# Altium footprint library Connectors.PcbLib: 77 footprints (part 4 of 5)
Each footprint in its own frame and in the unit in brackets; x right, y up, seen from the top. Pads: shape width x height; smd on the part's side, far side on the other; paste and mask are expansions set on the pad; w line width, h text height; cw(c..) or ccw(c..) is an arc to the next point about the centre after c.
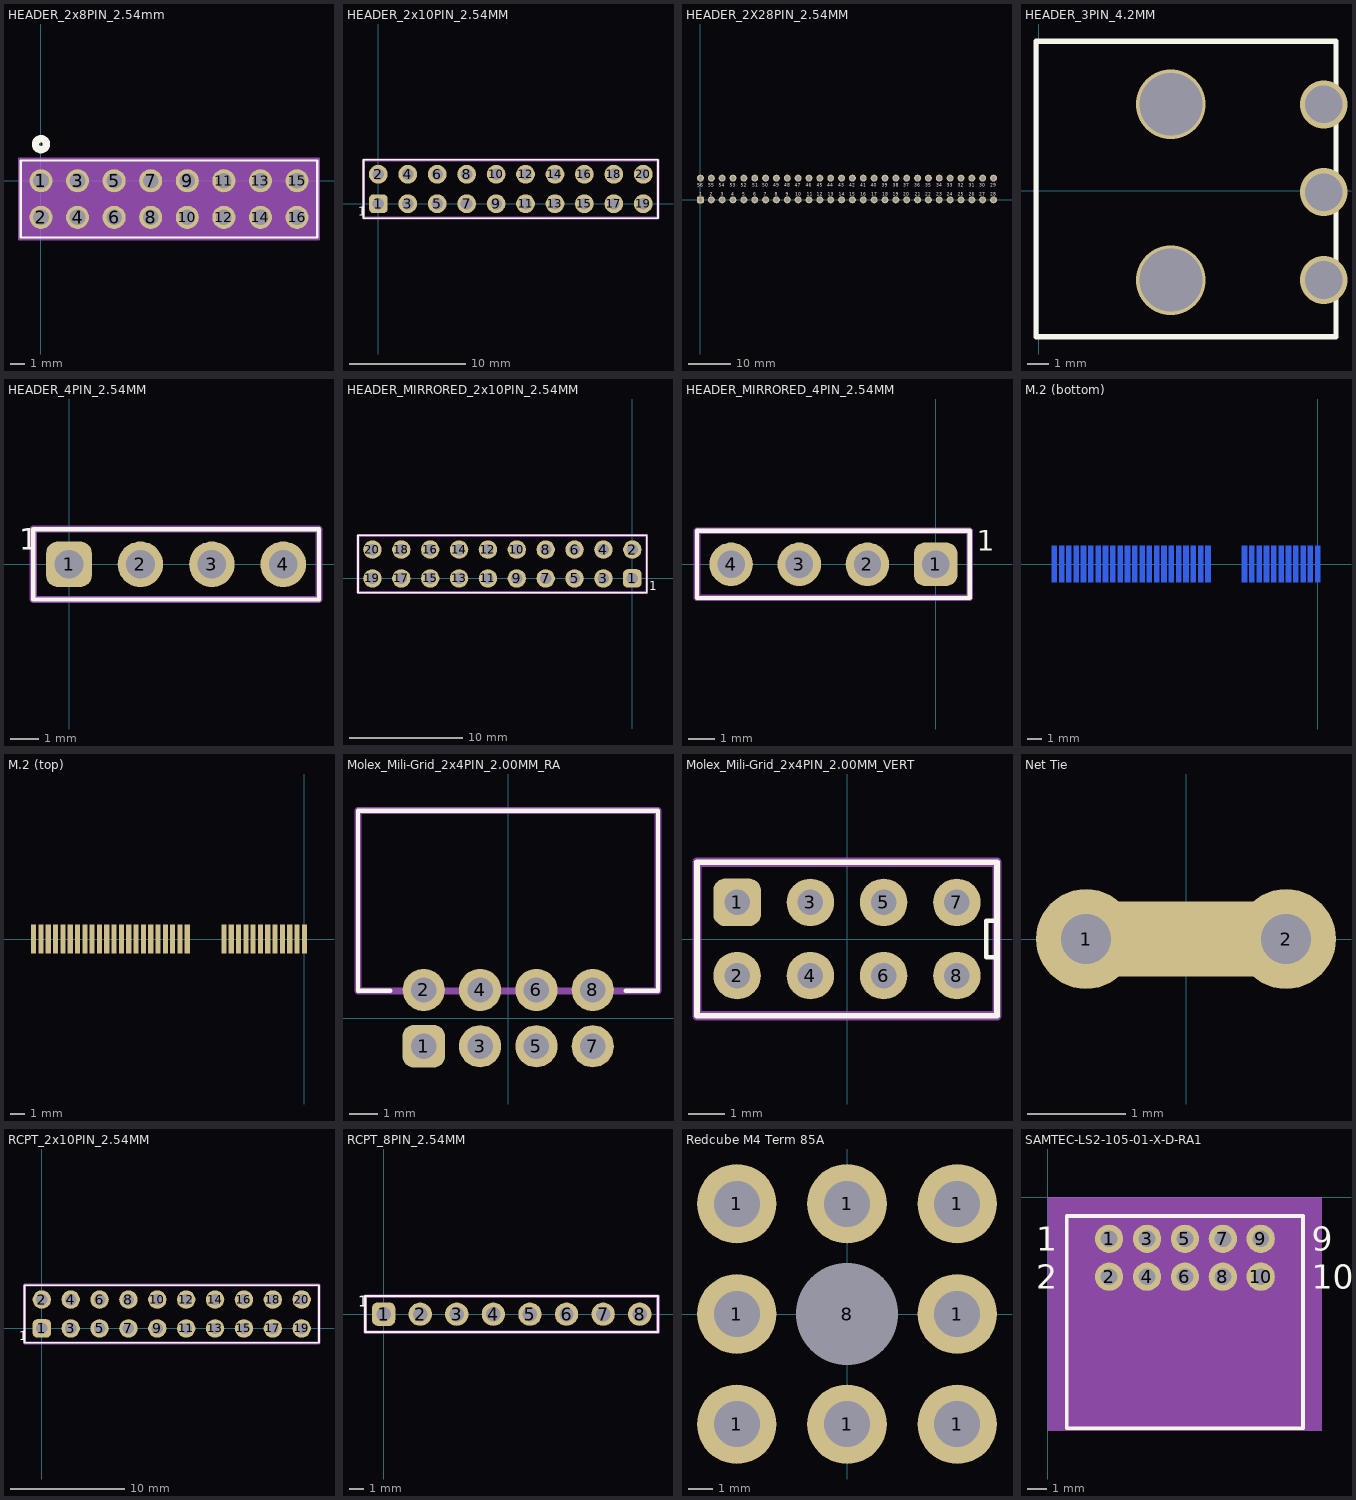
[diagram p3: the footprints below, top view; thin cyan lines are the x and y axes]

## HEADER_2x8PIN_2.54mm [mil]
pads (16):
  round 63 hole 43 paste-99999 mask+0: 1(0,0) 2(0,-100) 3(100,0) 4(100,-100) 5(200,0) 6(200,-100) 7(300,0) 8(300,-100) 9(400,0) 10(400,-100) 11(500,0) 12(500,-100) 13(600,0) 14(600,-100) 15(700,0) 16(700,-100)
Top Overlay:
  circle w20: c0,100 r15
  lines w6: -55,-155 -55,55 755,55 755,-155 -55,-155
Bottom Overlay:
  circle w20: c0,100 r15
Mechanical 13:
  lines w1: -50,-150 -50,50 750,50 750,-150 -50,-150
Mechanical 15:
  region: 760,60 -60,60 -60,-160 760,-160
  lines w6: -60,-160 760,-160 760,60 -60,60 -60,-160
3D body "0901310768.stp": height 365.12, standoff -113.23, extent -49,-150 751,50

## HEADER_2x10PIN_2.54MM [mm]
pads (20):
  rrect50% 1.62x1.62 hole 1.02: 1(0,0)
  round 1.62 hole 1.02: 2(0,2.54) 3(2.54,0) 4(2.54,2.54) 5(5.08,0) 6(5.08,2.54) 7(7.62,0) 8(7.62,2.54)
  round 1.62 hole 1: 9(10.16,0) 10(10.16,2.54) 11(12.7,0) 12(12.7,2.54) 13(15.24,0) 14(15.24,2.54) 15(17.78,0) 16(17.78,2.54) 17(20.32,0) 18(20.32,2.54) 19(22.86,0) 20(22.86,2.54)
Top Overlay:
  lines w0.152: -1.27,-1.25 24.13,-1.25 24.13,3.79 -1.27,3.79 -1.27,-1.25
  text "1" at -1.753,-1.041 h0.76
Mechanical 1:
  lines w0.254: -1.27,-1.25 24.13,-1.25 24.13,3.79 -1.27,3.79 -1.27,-1.25
3D body "XG8T-2031.STEP": height 7.01, standoff -2.99, extent -1.27,-1.25 24.13,3.75

## HEADER_2X28PIN_2.54MM [mm]
pads (56):
  rrect50% 1.62x1.62 hole 1.02: 1(0,0)
  round 1.62 hole 1.02: 2(2.54,0) 3(5.08,0) 4(7.62,0) 5(10.16,0) 6(12.7,0) 7(15.24,0) 8(17.78,0) 9(20.32,0) 10(22.86,0) 11(25.4,0) 12(27.94,0) 13(30.48,0) 14(33.02,0) 15(35.56,0) 16(38.1,0) 17(40.64,0) 18(43.18,0) 19(45.72,0) 20(48.26,0) 21(50.8,0) 22(53.34,0) 23(55.88,0) 24(58.42,0) 25(60.96,0) 26(63.5,0) 27(66.04,0) 28(68.58,0) 29(68.58,5.08) 30(66.04,5.08) 31(63.5,5.08) 32(60.96,5.08) 33(58.42,5.08) 34(55.88,5.08) 35(53.34,5.08) 36(50.8,5.08) 37(48.26,5.08) 38(45.72,5.08) 39(43.18,5.08) 40(40.64,5.08) 41(38.1,5.08) 42(35.56,5.08) 43(33.02,5.08) 44(30.48,5.08) 45(27.94,5.08) 46(25.4,5.08) 47(22.86,5.08) 48(20.32,5.08) 49(17.78,5.08) 50(15.24,5.08) 51(12.7,5.08) 52(10.16,5.08) 53(7.62,5.08) 54(5.08,5.08) 55(2.54,5.08) 56(0,5.08)
Top Overlay:
  text "35" at 52.578,3.048 h0.76
  text "38" at 44.958,3.048 h0.76
  text "37" at 47.498,3.048 h0.76
  text "36" at 50.038,3.048 h0.76
  text "34" at 55.118,3.048 h0.76
  text "33" at 57.658,3.048 h0.76
  text "32" at 60.198,3.048 h0.76
  text "31" at 62.738,3.048 h0.76
  text "30" at 65.278,3.048 h0.76
  text "29" at 67.818,3.048 h0.76
  text "56" at -0.762,3.048 h0.76
  text "55" at 1.778,3.048 h0.76
  text "54" at 4.318,3.048 h0.76
  text "53" at 6.858,3.048 h0.76
  text "52" at 9.398,3.048 h0.76
  text "51" at 12.065,3.048 h0.76
  text "48" at 19.558,3.048 h0.76
  text "50" at 14.478,3.048 h0.76
  text "49" at 17.018,3.048 h0.76
  text "47" at 22.098,3.048 h0.76
  text "46" at 24.638,3.048 h0.76
  text "45" at 27.178,3.048 h0.76
  text "44" at 29.718,3.048 h0.76
  text "43" at 32.258,3.048 h0.76
  text "42" at 34.798,3.048 h0.76
  text "41" at 37.402,3.048 h0.76
  text "40" at 39.878,3.048 h0.76
  text "39" at 42.418,3.048 h0.76
  text "28" at 67.818,1.016 h0.76
  text "27" at 65.278,1.016 h0.76
  text "26" at 62.738,1.016 h0.76
  text "25" at 60.198,1.016 h0.76
  text "24" at 57.658,1.016 h0.76
  text "23" at 55.118,1.016 h0.76
  text "22" at 52.578,1.016 h0.76
  text "21" at 50.165,1.016 h0.76
  text "20" at 47.498,1.016 h0.76
  text "19" at 45.022,1.016 h0.76
  text "18" at 42.482,1.016 h0.76
  text "17" at 39.942,1.016 h0.76
  text "16" at 37.402,1.016 h0.76
  text "15" at 34.862,1.016 h0.76
  text "14" at 32.322,1.016 h0.76
  text "13" at 29.782,1.016 h0.76
  text "12" at 27.242,1.016 h0.76
  text "11" at 24.829,1.016 h0.76
  text "10" at 22.162,1.016 h0.76
  text "9" at 19.939,1.016 h0.76
  text "8" at 17.399,1.016 h0.76
  text "7" at 14.859,1.016 h0.76
  text "6" at 12.319,1.016 h0.76
  text "5" at 9.779,1.016 h0.76
  text "4" at 7.239,1.016 h0.76
  text "3" at 4.699,1.016 h0.76
  text "2" at 2.159,1.016 h0.76
  text "1" at -0.254,1.016 h0.76

## HEADER_3PIN_4.2MM [mm] "CONN HEADER R/A 3POS 4.2MM"
pads (3):
  oval 0.3x1 all layers, no hole: 1(13.589,4.115) 2(13.589,-0.076) 3(13.589,-4.267)
via 6.299,-4.267 diameter 3.302 hole 2.997
via 13.589,4.115 diameter 2.286 hole 1.803
via 13.589,-0.076 diameter 2.286 hole 1.803
via 13.589,-4.267 diameter 2.286 hole 1.803
via 6.299,4.115 diameter 3.302 hole 2.997
Top Overlay:
  lines w0.254: -0.127,-6.96 14.173,-6.96 14.173,7.112 -0.127,7.112 -0.127,-6.96
3D body "039303037.stp": height 7.2, standoff -3.5, extent -0.025,-6.849 14.06,6.951

## HEADER_4PIN_2.54MM [mm]
pads (4):
  rrect50% 1.62x1.62 hole 1.02: 1(0,0)
  round 1.62 hole 1.02: 2(2.54,0) 3(5.08,0) 4(7.62,0)
Top Overlay:
  lines w0.152: -1.27,-1.25 -1.27,1.25 8.89,1.25 8.89,-1.25 -1.27,-1.25
  text "1" at -1.778,0.508 h0.76
Mechanical 1:
  lines w0.254: -1.27,-1.25 -1.27,1.25 8.89,1.25 8.89,-1.25 -1.27,-1.25
3D body "PEC04SFAN.STEP": height 10.48, standoff -3.19, extent -1.27,-1.27 8.89,1.27

## HEADER_MIRRORED_2x10PIN_2.54MM [mm]
pads (20):
  rrect50% 1.62x1.62 hole 1: 1(0,0)
  round 1.62 hole 1: 2(0,2.54) 3(-2.54,0) 4(-2.54,2.54) 5(-5.08,0) 6(-5.08,2.54) 7(-7.62,0) 8(-7.62,2.54) 9(-10.16,0) 10(-10.16,2.54) 11(-12.7,0) 12(-12.7,2.54)
  round 1.62 hole 1.02: 13(-15.24,0) 14(-15.24,2.54) 15(-17.78,0) 16(-17.78,2.54) 17(-20.32,0) 18(-20.32,2.54) 19(-22.86,0) 20(-22.86,2.54)
Top Overlay:
  lines w0.152: -24.13,-1.25 1.27,-1.25 1.27,3.79 -24.13,3.79 -24.13,-1.25
  text "1" at 1.499,-1.041 h0.76
Mechanical 1:
  lines w0.254: -24.13,-1.25 1.27,-1.25 1.27,3.79 -24.13,3.79 -24.13,-1.25
3D body "XG8T-2031.STEP": height 7.01, standoff -2.99, extent -24.13,-1.25 1.27,3.75

## HEADER_MIRRORED_4PIN_2.54MM [mm]
pads (4):
  rrect50% 1.62x1.62 hole 1.02: 1(0,0)
  round 1.62 hole 1.02: 2(-2.54,0) 3(-5.08,0) 4(-7.62,0)
Top Overlay:
  lines w0.152: -8.89,-1.25 1.27,-1.25 1.27,1.25 -8.89,1.25 -8.89,-1.25
  text "1" at 1.524,0.508 h0.76
Mechanical 1:
  lines w0.254: -8.89,-1.25 1.27,-1.25 1.27,1.25 -8.89,1.25 -8.89,-1.25
3D body "PEC04SFAN.STEP": height 10.48, standoff -3.19, extent -8.89,-1.27 1.27,1.27

## M.2 (bottom) [mm]
pads (33):
  rect 0.35x2.5 smd far side: 2(0,0) 4(-0.5,0) 6(-1,0) 8(-1.5,0) 10(-2.001,0) 12(-2.501,0) 14(-3.001,0) 16(-3.501,0) 18(-4.001,0) 20(-4.501,0) 22(-5.001,0) 32(-7.501,0) 34(-8.002,0) 36(-8.502,0) 38(-9.002,0) 40(-9.502,0) 42(-10.002,0) 44(-10.502,0) 46(-11.002,0) 48(-11.502,0) 50(-12.003,0) 52(-12.503,0) 54(-13.003,0) 56(-13.503,0) 58(-14.003,0) 60(-14.503,0) 62(-15.003,0) 64(-15.503,0) 66(-16.004,0) 68(-16.504,0) 70(-17.004,0) 72(-17.504,0) 74(-18.004,0)

## M.2 (top) [mm] "M.2 E-Key Fingers on the top side"
pads (34):
  rect 0.35x2 smd: 1(0,0) 3(-0.5,0) 5(-1,0) 7(-1.5,0) 9(-2,0) 11(-2.5,0) 13(-3,0) 15(-3.5,0) 17(-4,0) 19(-4.5,0) 21(-5,0) 23(-5.5,0) 33(-8,0) 35(-8.5,0) 37(-9,0) 39(-9.5,0) 41(-10,0) 43(-10.5,0) 45(-11,0) 47(-11.5,0) 49(-12,0) 51(-12.5,0) 53(-13,0) 55(-13.5,0) 57(-14,0) 59(-14.5,0) 61(-15,0) 63(-15.5,0) 65(-16,0) 67(-16.5,0) 69(-17,0) 71(-17.5,0) 73(-18,0) 75(-18.5,0)

## Molex_Mili-Grid_2x4PIN_2.00MM_RA [mm] "Molex Mili-Grid 2.00mm 2x4 RA"
pads (8):
  rrect50% 1.5x1.5 hole 0.9: 1(-3,-1)
  round 1.5 hole 0.9: 2(-3,1) 3(-1,-1) 4(-1,1) 5(1,-1) 6(1,1) 7(3,-1) 8(3,1)
Top Overlay:
  lines w0.152: -4.186,0.966 -5.334,0.966 -5.334,7.366 5.316,7.366 5.316,0.966 4.168,0.966
Mechanical 1:
  lines w0.254: -5.334,0.966 -5.334,7.366 5.316,7.366 5.316,0.966 -5.334,0.966
3D body "MiliGrid2x4RA.stp": height 6.31, standoff -2.15, extent -5.325,-1.27 5.325,7.38

## Molex_Mili-Grid_2x4PIN_2.00MM_VERT [mm] "Molex Mili-Grid 2.00mm 2x4 Vert"
pads (8):
  rrect50% 1.3x1.3 hole 0.7: 1(-3,1)
  round 1.3 hole 0.7: 2(-3,-1) 3(-1,1) 4(-1,-1) 5(1,1) 6(1,-1) 7(3,1) 8(3,-1)
Top Overlay:
  lines w0.127: 4.056,-0.5 3.8,-0.5 3.8,0.5 4.056,0.5
  lines w0.152: -4.095,-2.095 4.095,-2.095 4.095,2.095 -4.095,2.095 -4.095,-2.095
Mechanical 1:
  lines w0.254: -4.095,-2.095 4.095,-2.095 4.095,2.095 -4.095,2.095 -4.095,-2.095
3D body "MiliGrid2x4VERT.stp": height 4.45, standoff -2.99, extent -4.047,-2.079 4.143,2.111

## Net Tie [mil]
pads (3):
  round 40 hole 20: 1(-40,0) 2(40,0)
  rrect50% 80x30 smd: ""(0,0)

## RCPT_2x10PIN_2.54MM [mm]
pads (20):
  rrect50% 1.62x1.62 hole 1.02: 1(0,0)
  round 1.62 hole 1.02: 2(0,2.54) 3(2.54,0) 4(2.54,2.54) 5(5.08,0) 6(5.08,2.54) 7(7.62,0) 8(7.62,2.54)
  round 1.62 hole 1: 9(10.16,0) 10(10.16,2.54) 11(12.7,0) 12(12.7,2.54) 13(15.24,0) 14(15.24,2.54) 15(17.78,0) 16(17.78,2.54) 17(20.32,0) 18(20.32,2.54) 19(22.86,0) 20(22.86,2.54)
Top Overlay:
  lines w0.152: -1.524,-1.27 24.384,-1.27 24.384,3.81 -1.524,3.81 -1.524,-1.27
  text "1" at -2.007,-1.041 h0.76
Mechanical 1:
  lines w0.254: -1.524,-1.27 24.384,-1.27 24.384,3.81 -1.524,3.81 -1.524,-1.27
3D body "PPPC102LFBN-RC--3DModel-STEP-56544.STEP": height 8.51, standoff -3.4, extent -1.524,-1.27 24.384,3.81

## RCPT_8PIN_2.54MM [mm]
pads (8):
  rrect50% 1.62x1.62 hole 1.02: 1(0,0)
  round 1.62 hole 1.02: 2(2.54,0) 3(5.08,0) 4(7.62,0)
  round 1.62 hole 1: 5(10.16,0) 6(12.7,0) 7(15.24,0) 8(17.78,0)
Top Overlay:
  lines w0.152: -1.27,-1.25 -1.27,1.25 19.05,1.25 19.05,-1.25 -1.27,-1.25
  text "1" at -1.778,0.508 h0.76
Mechanical 1:
  lines w0.254: -1.27,-1.25 -1.27,1.25 19.05,1.25 19.05,-1.25 -1.27,-1.25
3D body "c-534237-6-s-3d.stp": height 8.65, standoff -2.91, extent -1.27,-1.778 19.05,1.778

## Redcube M4 Term 85A [mm]
pads (9):
  round 3.2 hole 1.85: 1(-4.435,-4.435) 1(-4.435,0) 1(-4.435,4.435) 1(0,-4.435) 1(0,4.435) 1(4.435,-4.435) 1(4.435,0) 1(4.435,4.435)
  round 3.2 hole 4.1 unplated: 8(0,0)
3D body "74650094 (rev1).stp": height 3, standoff -3, extent -5,-5 5,5

## SAMTEC-LS2-105-01-X-D-RA1 [mm]
pads (10):
  round 1.49 hole 0.89 mask+0: 1(3.229,-2.193) 2(3.229,-4.193) 3(5.229,-2.193) 4(5.229,-4.193) 5(7.229,-2.193) 6(7.229,-4.193) 7(9.229,-2.193) 8(9.229,-4.193) 9(11.229,-2.193) 10(11.229,-4.193)
Top Overlay:
  lines w0.2: 0.997,-12.192 13.461,-12.192 13.461,-0.997 0.997,-0.997 0.997,-12.192
  text "10" at 13.929,-4.828 h1.27
  text "9" at 13.929,-2.828 h1.27
  text "2" at -0.627,-4.828 h1.27
  text "1" at -0.627,-2.828 h1.27
Top Solder:
  circle w0: c11.229,-4.193 r0.796
  circle w0: c11.229,-2.193 r0.796
  circle w0: c9.229,-4.193 r0.796
  circle w0: c9.229,-2.193 r0.796
  circle w0: c7.229,-4.193 r0.796
  circle w0: c7.229,-2.193 r0.796
  circle w0: c5.229,-4.193 r0.796
  circle w0: c5.229,-2.193 r0.796
  circle w0: c3.229,-4.193 r0.796
  circle w0: c3.229,-2.193 r0.796
Bottom Solder:
  circle w0: c11.229,-4.193 r0.796
  circle w0: c11.229,-2.193 r0.796
  circle w0: c9.229,-4.193 r0.796
  circle w0: c9.229,-2.193 r0.796
  circle w0: c7.229,-4.193 r0.796
  circle w0: c7.229,-2.193 r0.796
  circle w0: c5.229,-4.193 r0.796
  circle w0: c5.229,-2.193 r0.796
  circle w0: c3.229,-4.193 r0.796
  circle w0: c3.229,-2.193 r0.796
Mechanical 15:
  region: 14.458,-12.321 0,-12.321 0,0 14.458,0
3D body "LS2-105-01-L-D-RA1.stp": height 5.34, standoff -2.22, extent 1.584,-12.192 13.148,-1.815